# Altium schematic symbol library Resistor_0603_5%.SchLib: 132 symbols (part 1 of 2)
Pins are listed as number, name and electrical type; pins without a type are passive.

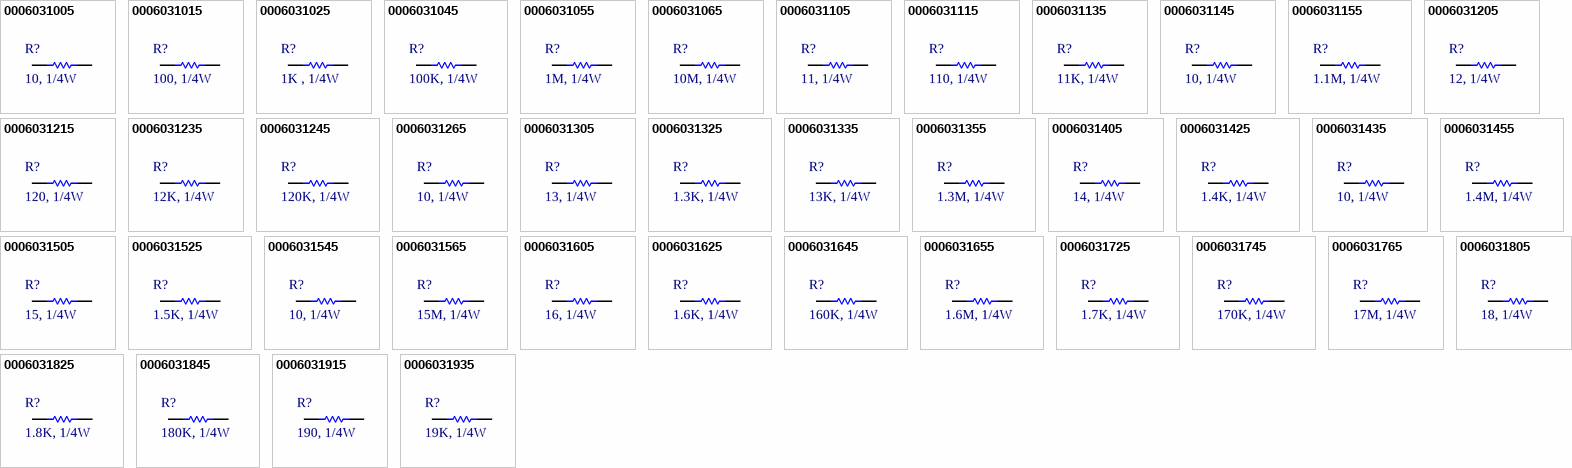
[diagram p0: symbols 0006031005 to 0006031935]

## 0006031005
designator R?, comment 10, 1/4W
RES, 10 Ohm, size 0603, 5%; Manufacture  Name: Panasonic; Manufacture  SN: ERJ-UP3J100V; Resistance tolerance: +/-5%; Resistance: 10; Supply 1 Name: Mouser; Supply 1 SN: 667-ERJ-UP3J100V; Supply 2 Name: Digi-Key; Supply 2 SN: 10-ERJ-UP3J100VTR-ND - Tape & Reel (TR); Size: 0603; Mounting Technology: SMT; Rated Power: 1/4 W; Datasheet: https://www.mouser.vn/datasheet/2/315/Panasonic_Resistors_Thick_Film_Anti_Sulf_Anti_Surg-1825099.pdf; ComponentLink1Description: Datasheet link; ComponentLink1URL: *; Supply 1 URL: https://www.mouser.vn/ProductDetail/Panasonic/ERJ-UP3J100V?qs=GedFDFLaBXHtQF28GWvg8g%3D%3D; Supply 2 URL: https://www.digikey.com/en/products/detail/panasonic-electronic-components/ERJ-UP3J100V/12092287; Supply 3 Name: *; Supply 3 SN: *; Supply 3 URL: https://www.thegioiic.com/dien-tro-10-ohm-1-4w-5-4-vong-mau
pins: 1, 2

## 0006031015
designator R?, comment 100, 1/4W
RES, 100 Ohm, size 0603, 5%; Manufacture  Name: Panasonic; Manufacture  SN: ERJ-PA3J101V; Resistance tolerance: +/-5%; Resistance: 100; Supply 1 Name: Mouser; Supply 1 SN: 667-ERJ-PA3J101V; Supply 2 Name: Digi-Key; Supply 2 SN: P100BZTR-ND - Tape & Reel (TR; Size: 0603; Mounting Technology: SMT; Rated Power: 1/4 W; Datasheet: https://www.mouser.vn/datasheet/2/315/AOA0000C331-1141874.pdf; ComponentLink1Description: Datasheet link; ComponentLink1URL: *; Supply 1 URL: https://www.mouser.vn/ProductDetail/Panasonic/ERJ-PA3J101V?qs=sGAEpiMZZMtlubZbdhIBIL24R7XL4VFWZlTxnuJKkJY%3D; Supply 2 URL: https://www.digikey.com/en/products/detail/panasonic-electronic-components/ERJ-PA3J101V/5035969?s=N4IgTCBcDaIGxwOwFoCiAlAUsgCgQQGZMBGABmIDUQBdAXyA; Supply 3 Name: *; Supply 3 SN: *; Supply 3 URL: https://www.thegioiic.com/dien-tro-100-ohm-1-4w-5-4-vong-mau
pins: 1, 2

## 0006031025
designator R?, comment 1K , 1/4W
RES, 1K Ohm, size 0603, 5%; Manufacture  Name: Panasonic; Manufacture  SN: ERJ-UP3J102V; Resistance tolerance: +/-5%; Supply 1 Name: Mouser; Supply 1 SN: 667-ERJ-UP3J102V; Supply 2 Name: Digi-Key; Size: 0603; Mounting Technology: SMT; Rated Power: 1/4 W; Datasheet: https://www.mouser.vn/datasheet/2/315/Panasonic_Resistors_Thick_Film_Anti_Sulf_Anti_Surg-1825099.pdf; Resistance: 1K; ComponentLink1Description: Datasheet link; ComponentLink1URL: *; Supply 1 URL: https://www.mouser.vn/ProductDetail/Panasonic/ERJ-UP3J102V?qs=GedFDFLaBXG0ASpYP%252B3phQ%3D%3D; Supply 2 SN: 667-ERJ-UP3J102V; Supply 2 URL: https://www.mouser.vn/ProductDetail/Panasonic/ERJ-UP3J102V?qs=GedFDFLaBXG0ASpYP%252B3phQ%3D%3D; Supply 3 Name: *; Supply 3 SN: *; Supply 3 URL: https://www.thegioiic.com/dien-tro-1-kohm-0603-5
pins: 1, 2

## 0006031045
designator R?, comment 100K, 1/4W
RES, 100K Ohm, size 0603, 5%; Manufacture  Name: Panasonic; Manufacture  SN: ERJ-UP3J104V; Resistance tolerance: +/-5%; Supply 1 Name: Mouser; Supply 1 SN: 667-ERJ-UP3J104V; Supply 2 Name: Digi-Key; Supply 2 SN: 10-ERJ-UP3J104VTR-ND - Tape & Reel (TR); Size: 0603; Mounting Technology: SMT; Rated Power: 1/4 W; Datasheet: https://www.mouser.vn/datasheet/2/315/Panasonic_Resistors_Thick_Film_Anti_Sulf_Anti_Surg-1825099.pdf; Resistance: 100K; ComponentLink1Description: Datasheet link; ComponentLink1URL: *; Supply 1 URL: https://www.mouser.vn/ProductDetail/Panasonic/ERJ-UP3J104V?qs=GedFDFLaBXGDblK28z0pnQ%3D%3D; Supply 2 URL: https://www.digikey.com/en/products/detail/panasonic-electronic-components/ERJ-UP3J104V/12092096?s=N4IgTCBcDaIGxwOwFoCiAlAUsgqgBQGZMBGABgBYA1EAXQF8g; Supply 3 Name: *; Supply 3 SN: *; Supply 3 URL: https://www.thegioiic.com/dien-tro-100-kohm-0603-5
pins: 1, 2

## 0006031055
designator R?, comment 1M, 1/4W
RES, 1M Ohm, size 0603, 5%; Manufacture  Name: Panasonic; Manufacture  SN: ERJ-UP3J105V; Resistance tolerance: +/-5%; Supply 1 Name: Mouser; Supply 1 SN: 667-ERJ-UP3J105V; Supply 2 Name: Digi-Key; Supply 2 SN: 10-ERJ-UP3J105VTR-ND - Tape & Reel (TR); Size: 0603; Mounting Technology: SMT; Rated Power: 1/4 W; Datasheet: https://www.mouser.vn/datasheet/2/315/Panasonic_Resistors_Thick_Film_Anti_Sulf_Anti_Surg-1825099.pdf; Resistance: 1M; ComponentLink1Description: Datasheet link; ComponentLink1URL: *; Supply 1 URL: https://www.mouser.vn/ProductDetail/Panasonic/ERJ-UP3J105V?qs=GedFDFLaBXGINFBXL6YStg%3D%3D; Supply 2 URL: https://www.digikey.com/en/products/detail/panasonic-electronic-components/ERJ-UP3J105V/12092177?s=N4IgTCBcDaIGxwOwFoCiAlAUsgqgBQGZMBGABgFYA1EAXQF8g; Supply 3 Name: *; Supply 3 SN: *; Supply 3 URL: https://www.thegioiic.com/dien-tro-1-mohm-0603-5
pins: 1, 2

## 0006031065
designator R?, comment 10M, 1/4W
RES, 10M Ohm, size 0603, 5%; Manufacture  Name: Panasonic; Manufacture  SN: ERJ-UP3J100V; Resistance tolerance: +/-5%; Resistance: 10; Supply 1 Name: Mouser; Supply 1 SN: 667-ERJ-UP3J100V; Supply 2 Name: Digi-Key; Supply 2 SN: 10-ERJ-UP3J100VTR-ND - Tape & Reel (TR); Size: 0603; Mounting Technology: SMT; Rated Power: 1/4 W; Datasheet: https://www.mouser.vn/datasheet/2/315/Panasonic_Resistors_Thick_Film_Anti_Sulf_Anti_Surg-1825099.pdf; ComponentLink1Description: Datasheet link; ComponentLink1URL: *; Supply 1 URL: https://www.mouser.vn/ProductDetail/Panasonic/ERJ-UP3J100V?qs=GedFDFLaBXHtQF28GWvg8g%3D%3D; Supply 2 URL: https://www.digikey.com/en/products/detail/panasonic-electronic-components/ERJ-UP3J100V/12092287; Supply 3 Name: *; Supply 3 SN: *; Supply 3 URL: https://www.thegioiic.com/dien-tro-10-ohm-1-4w-5-4-vong-mau
pins: 1, 2

## 0006031105
designator R?, comment 11, 1/4W
RES, 11 Ohm, size 0603, 5%; Manufacture  Name: Panasonic; Manufacture  SN: ERJ-PA3J110V; Resistance tolerance: +/-5%; Resistance: 11; Supply 1 Name: Mouser; Supply 1 SN: 667-ERJ-PA3J110V; Supply 2 Name: Digi-Key; Supply 2 SN: P11.00BZTR-ND - Tape & Reel (TR); Size: 0603; Mounting Technology: SMT; Rated Power: 1/4 W; Datasheet: https://www.mouser.vn/datasheet/2/315/AOA0000C331-1141874.pdf; ComponentLink1Description: Datasheet link; ComponentLink1URL: *; Supply 1 URL: https://www.mouser.vn/ProductDetail/Panasonic/ERJ-PA3J110V?qs=BzJM0faLVqUVJCFpF2esuw%3D%3D; Supply 2 URL: https://www.digikey.com/en/products/detail/panasonic-electronic-components/ERJ-PA3J110V/5035974?s=N4IgTCBcDaIKICUBSBaACgQQMxIIy4AYA1EAXQF8g; Supply 3 Name: *; Supply 3 SN: *; Supply 3 URL: *
pins: 1, 2

## 0006031115
designator R?, comment 110, 1/4W
RES, 110 Ohm, size 0603, 5%; Manufacture  Name: Panasonic; Manufacture  SN: ERJ-PA3J111V; Resistance tolerance: +/-5%; Resistance: 110; Supply 1 Name: Mouser; Supply 1 SN: 667-ERJ-PA3J111V; Supply 2 Name: Digi-Key; Supply 2 SN: P110BZTR-ND - Tape & Reel (TR); Size: 0603; Mounting Technology: SMT; Rated Power: 1/4 W; Datasheet: https://www.mouser.vn/datasheet/2/315/AOA0000C331-1141874.pdf; ComponentLink1Description: Datasheet link; ComponentLink1URL: *; Supply 1 URL: https://www.mouser.vn/ProductDetail/Panasonic/ERJ-PA3J111V?qs=BzJM0faLVqVWsrK26X2SBg%3D%3D; Supply 2 URL: https://www.digikey.com/en/products/detail/panasonic-electronic-components/ERJ-PA3J110V/5035974?s=N4IgTCBcDaIKICUBSBaACgQQMxIIy4AYA1EAXQF8g; Supply 3 Name: *; Supply 3 SN: *; Supply 3 URL: *
pins: 1, 2

## 0006031135
designator R?, comment 11K, 1/4W
RES, 11K Ohm, size 0603, 5%; Manufacture  Name: Panasonic; Resistance tolerance: +/-5%; Supply 1 Name: Mouser; Supply 1 SN: ERJ-PA3J113V; Supply 2 Name: Digi-Key; Supply 2 SN: P11KBZTR-ND - Tape & Reel (TR); Size: 0603; Mounting Technology: SMT; Rated Power: 1/4 W; Datasheet: https://www.mouser.vn/datasheet/2/315/AOA0000C331-1141874.pdf; Resistance: 11K; ComponentLink1Description: Datasheet link; ComponentLink1URL: *; Supply 1 URL: https://www.mouser.vn/ProductDetail/Panasonic/ERJ-PA3J113V?qs=BzJM0faLVqVM8QjVQI3mRg%3D%3D; Supply 2 URL: https://www.digikey.com/en/products/detail/panasonic-electronic-components/ERJ-PA3J113V/5035977?s=N4IgTCBcDaIGxwOwFoCiAlAUsgCgQQGZMBGYggNRAF0BfIA; Supply 3 Name: *; Supply 3 SN: *; Supply 3 URL: *; Manufacture  SN: ERJ-PA3J113V
pins: 1, 2

## 0006031145
designator R?, comment 10, 1/4W
RES, 110K Ohm, size 0603, 5%; Manufacture  Name: Panasonic; Manufacture  SN: ERJ-PA3J114V; Resistance tolerance: +/-5%; Supply 1 Name: Mouser; Supply 1 SN: 667-ERJ-PA3J114V; Supply 2 Name: Digi-Key; Supply 2 SN: P110KBZTR-ND - Tape & Reel (TR); Size: 0603; Mounting Technology: SMT; Rated Power: 1/4 W; Datasheet: https://www.mouser.vn/datasheet/2/315/AOA0000C331-1141874.pdf; Resistance: 110K; ComponentLink1Description: Datasheet link; ComponentLink1URL: *; Supply 1 URL: https://www.mouser.vn/ProductDetail/Panasonic/ERJ-PA3J114V?qs=BzJM0faLVqW9SUUBohRIoQ%3D%3D; Supply 2 URL: https://www.digikey.com/en/products/detail/panasonic-electronic-components/ERJ-PA3J114V/5035978?s=N4IgTCBcDaIGxwOwFoCiAlAUsgCgQQGZMBGYgFgDUQBdAXyA; Supply 3 Name: *; Supply 3 SN: *; Supply 3 URL: *
pins: 1, 2

## 0006031155
designator R?, comment 1.1M, 1/4W
RES, 1.1M Ohm, size 0603, 5%; Manufacture  Name: Panasonic; Manufacture  SN: ERJ-PA3J115V; Resistance tolerance: +/-5%; Supply 1 Name: Mouser; Supply 1 SN: 667-ERJ-PA3J115V; Supply 2 Name: Digi-Key; Supply 2 SN: P124098TR-ND - Tape & Reel (TR); Size: 0603; Mounting Technology: SMT; Rated Power: 1/4 W; Datasheet: https://www.mouser.vn/datasheet/2/315/AOA0000C331-1141874.pdf; Resistance: 1.1M; ComponentLink1Description: Datasheet link; ComponentLink1URL: *; Supply 1 URL: https://www.mouser.vn/ProductDetail/Panasonic/ERJ-PA3J115V?qs=qSfuJ%252Bfl%2Fd52nzS52dr8qA%3D%3D; Supply 2 URL: https://www.digikey.com/en/products/detail/panasonic-electronic-components/ERJ-PA3J115V/9694904?s=N4IgTCBcDaIGxwOwFoCiAlAUsgCgQQGZMBGYgVgDUQBdAXyA; Supply 3 Name: *; Supply 3 SN: *; Supply 3 URL: *
pins: 1, 2

## 0006031205
designator R?, comment 12, 1/4W
RES, 12 Ohm, size 0603, 5%; Manufacture  Name: Panasonic; Manufacture  SN: ERJ-PA3J120V; Resistance tolerance: +/-5%; Resistance: 10; Supply 1 Name: Mouser; Supply 2 Name: Digi-Key; Supply 2 SN: P12.00BZTR-ND - Tape & Reel (TR); Size: 0603; Mounting Technology: SMT; Rated Power: 1/4 W; Datasheet: https://www.mouser.vn/datasheet/2/315/AOA0000C331-1141874.pdf; ComponentLink1Description: Datasheet link; ComponentLink1URL: *; Supply 1 SN: https://www.mouser.vn/ProductDetail/Panasonic/ERJ-PA3J120V?qs=BzJM0faLVqW1x3yhFHUqTw%3D%3D; Supply 1 URL: https://www.mouser.vn/ProductDetail/Panasonic/ERJ-PA3J120V?qs=BzJM0faLVqW1x3yhFHUqTw%3D%3D; Supply 2 URL: https://www.digikey.com/en/products/detail/panasonic-electronic-components/ERJ-PA3J120V/5035979?s=N4IgTCBcDaIGxwOwFoCiAlAUsgCgQQGZMBGMABgDUQBdAXyA; Supply 3 Name: *; Supply 3 SN: *; Supply 3 URL: https://www.thegioiic.com/dien-tro-12-ohm-0603-5-
pins: 1, 2

## 0006031215
designator R?, comment 120, 1/4W
RES, 120 Ohm, size 0603, 5%; Manufacture  Name: Panasonic; Manufacture  SN: ERJ-PA3J121V; Resistance tolerance: +/-5%; Resistance: 120; Supply 1 Name: Mouser; Supply 1 SN: 667-ERJ-PA3J121V; Supply 2 Name: Digi-Key; Supply 2 SN: P120BZTR-ND - Tape & Reel (TR); Size: 0603; Mounting Technology: SMT; Rated Power: 1/4 W; Datasheet: https://www.mouser.vn/datasheet/2/315/AOA0000C331-1141874.pdf; ComponentLink1Description: Datasheet link; ComponentLink1URL: *; Supply 1 URL: https://www.mouser.vn/ProductDetail/Panasonic/ERJ-PA3J121V?qs=BzJM0faLVqUskHAfNBlRjA%3D%3D; Supply 2 URL: https://www.digikey.com/en/products/detail/panasonic-electronic-components/ERJ-PA3J121V/5035980?s=N4IgTCBcDaIGxwOwFoCiAlAUsgCgQQGZMBGMYgNRAF0BfIA; Supply 3 Name: *; Supply 3 SN: *; Supply 3 URL: https://www.thegioiic.com/dien-tro-120-ohm-0603-5
pins: 1, 2

## 0006031235
designator R?, comment 12K, 1/4W
RES, 12K Ohm, size 0603, 5%; Manufacture  Name: Panasonic; Resistance tolerance: +/-5%; Supply 1 Name: Mouser; Supply 1 SN: 667-ERJ-PA3J123V; Supply 2 Name: Digi-Key; Supply 2 SN: P12KBZTR-ND - Tape & Reel (TR); Size: 0603; Mounting Technology: SMT; Rated Power: 1/4 W; Datasheet: https://www.mouser.vn/datasheet/2/315/AOA0000C331-1141874.pdf; Resistance: 12K; ComponentLink1Description: Datasheet link; ComponentLink1URL: *; Supply 1 URL: https://www.mouser.vn/ProductDetail/Panasonic/ERJ-PA3J123V?qs=BzJM0faLVqUmhFLBcKz%2F9g%3D%3D; Supply 2 URL: https://www.digikey.com/en/products/detail/panasonic-electronic-components/ERJ-PA3J123V/5035982?s=N4IgTCBcDaIGxwOwFoCiAlAUsgCgQQGZMBGMAgNRAF0BfIA; Supply 3 Name: *; Supply 3 SN: *; Supply 3 URL: https://www.thegioiic.com/dien-tro-12-kohm-0603-5
pins: 1, 2

## 0006031245
designator R?, comment 120K, 1/4W
RES, 120K Ohm, size 0603, 5%; Manufacture  Name: Panasonic; Manufacture  SN: ERJ-PA3J124V; Resistance tolerance: +/-5%; Supply 1 Name: Mouser; Supply 1 SN: 667-ERJ-PA3J124V; Supply 2 Name: Digi-Key; Supply 2 SN: P120KBZTR-ND - Tape & Reel (TR); Size: 0603; Mounting Technology: SMT; Rated Power: 1/4 W; Datasheet: https://www.mouser.vn/datasheet/2/315/AOA0000C331-1141874.pdf; Resistance: 120K; ComponentLink1Description: Datasheet link; ComponentLink1URL: *; Supply 1 URL: https://www.mouser.vn/ProductDetail/Panasonic/ERJ-PA3J124V?qs=BzJM0faLVqW0tp%252B4qebUxw%3D%3D; Supply 2 URL: https://www.digikey.com/en/products/detail/panasonic-electronic-components/ERJ-PA3J124V/5035983?s=N4IgTCBcDaIGxwOwFoCiAlAUsgCgQQGZMBGMAFgDUQBdAXyA; Supply 3 Name: *; Supply 3 SN: *; Supply 3 URL: https://www.thegioiic.com/dien-tro-120-kohm-0603-5
pins: 1, 2

## 0006031265
designator R?, comment 10, 1/4W
RES, 12M Ohm, size 0603, 5%; Resistance tolerance: +/-5%; Size: 0603; Mounting Technology: SMT; Rated Power: 1/4 W; Datasheet: https://www.mouser.vn/datasheet/2/315/Panasonic_Resistors_Thick_Film_Anti_Sulf_Anti_Surg-1825099.pdf; Resistance: 12M; ComponentLink1Description: Datasheet link; ComponentLink1URL: *; Supply 1 Name: *; Supply 1 SN: *; Supply 1 URL: *; Supply 2 Name: *; Supply 2 SN: *; Supply 2 URL: *; Supply 3 Name: *; Supply 3 SN: *; Supply 3 URL: *; Manufacture  Name: *; Manufacture  SN: *
pins: 1, 2

## 0006031305
designator R?, comment 13, 1/4W
RES, 13 Ohm, size 0603, 5%; Manufacture  Name: Panasonic; Manufacture  SN: ERJ-PA3J130V; Resistance tolerance: +/-5%; Resistance: 13; Supply 1 Name: Mouser; Supply 1 SN: 667-ERJ-PA3J130V; Supply 2 Name: Digi-Key; Supply 2 SN: P13.00BZTR-ND - Tape & Reel (TR); Size: 0603; Mounting Technology: SMT; Rated Power: 1/4 W; Datasheet: https://www.mouser.vn/datasheet/2/315/AOA0000C331-1141874.pdf; ComponentLink1Description: Datasheet link; ComponentLink1URL: *; Supply 1 URL: https://www.digikey.com/en/products/detail/panasonic-electronic-components/ERJ-PA3J130V/5035984?s=N4IgTCBcDaIGxwOwFoCiAlAUsgCgQQGZMBGAgBgDUQBdAXyA; Supply 2 URL: https://www.digikey.com/en/products/detail/panasonic-electronic-components/ERJ-PA3J130V/5035984?s=N4IgTCBcDaIGxwOwFoCiAlAUsgCgQQGZMBGAgBgDUQBdAXyA; Supply 3 Name: *; Supply 3 SN: *; Supply 3 URL: *
pins: 1, 2

## 0006031325
designator R?, comment 1.3K, 1/4W
RES, 1.3K Ohm, size 0603, 5%; Manufacture  Name: Panasonic; Manufacture  SN: ERJ-PA3J132V; Resistance tolerance: +/-5%; Supply 1 Name: Mouser; Supply 1 SN: 667-ERJ-PA3J132V; Supply 2 Name: Digi-Key; Supply 2 SN: P1.3KBZTR-ND - Tape & Reel (TR); Size: 0603; Mounting Technology: SMT; Rated Power: 1/4 W; Datasheet: https://www.mouser.vn/datasheet/2/315/AOA0000C331-1141874.pdf; Resistance: 1.3K; ComponentLink1Description: Datasheet link; ComponentLink1URL: *; Supply 1 URL: https://www.mouser.vn/ProductDetail/Panasonic/ERJ-PA3J132V?qs=BzJM0faLVqVH6IcrChaVZw%3D%3D; Supply 2 URL: https://www.digikey.com/en/products/detail/panasonic-electronic-components/ERJ-PA3J132V/5035986?s=N4IgTCBcDaIGxwOwFoCiAlAUsgCgQQGZMBGAsANRAF0BfIA; Supply 3 Name: *; Supply 3 SN: *
pins: 1, 2

## 0006031335
designator R?, comment 13K, 1/4W
RES, 13K Ohm, size 0603, 5%; Manufacture  Name: Panasonic; Manufacture  SN: ERJ-PA3J133V; Resistance tolerance: +/-5%; Supply 1 Name: Mouser; Supply 1 SN: 667-ERJ-PA3J133V; Supply 2 Name: Digi-Key; Supply 2 SN: P13KBZTR-ND - Tape & Reel (TR); Size: 0603; Mounting Technology: SMT; Rated Power: 1/4 W; Datasheet: https://www.mouser.vn/datasheet/2/315/AOA0000C331-1141874.pdf; Resistance: 13K; ComponentLink1Description: Datasheet link; ComponentLink1URL: *; Supply 1 URL: https://www.mouser.vn/ProductDetail/Panasonic/ERJ-PA3J133V?qs=BzJM0faLVqWIEe8wMw2nxQ%3D%3D; Supply 2 URL: https://www.digikey.com/en/products/detail/panasonic-electronic-components/ERJ-PA3J133V/5035987?s=N4IgTCBcDaIGxwOwFoCiAlAUsgCgQQGZMBGAggNRAF0BfIA; Supply 3 Name: *; Supply 3 SN: *; Supply 3 URL: https://www.thegioiic.com/dien-tro-13-kohm-0603-5
pins: 1, 2

## 0006031355
designator R?, comment 1.3M, 1/4W
RES, 1.3M Ohm, size 0603, 5%; Manufacture  Name: Panasonic; Manufacture  SN: ERJ-PA3J135V; Resistance tolerance: +/-5%; Supply 1 Name: Mouser; Supply 1 SN: 667-ERJ-PA3J135V; Supply 2 Name: Digi-Key; Supply 2 SN: P124100TR-ND - Tape & Reel (TR); Size: 0603; Mounting Technology: SMT; Rated Power: 1/4 W; Datasheet: https://www.mouser.vn/datasheet/2/315/Panasonic_Resistors_Thick_Film_Anti_Sulf_Anti_Surg-1825099.pdf; Resistance: 1.3M; ComponentLink1Description: Datasheet link; ComponentLink1URL: *; Supply 1 URL: https://www.mouser.vn/ProductDetail/Panasonic/ERJ-PA3J135V?qs=qSfuJ%252Bfl%2Fd43JlVrOpg6Sg%3D%3D; Supply 2 URL: https://www.digikey.com/en/products/detail/panasonic-electronic-components/ERJ-PA3J135V/9694906?s=N4IgTCBcDaIGxwOwFoCiAlAUsgCgQQGZMBGAgVgDUQBdAXyA; Supply 3 Name: *; Supply 3 SN: *; Supply 3 URL: *
pins: 1, 2

## 0006031405
designator R?, comment 14, 1/4W
RES, 14 Ohm, size 0603, 5%; Resistance tolerance: +/-5%; Size: 0603; Mounting Technology: SMT; Rated Power: 1/4 W; Datasheet: *; Resistance: *; ComponentLink1Description: Datasheet link; ComponentLink1URL: *; Supply 1 Name: *; Supply 1 SN: *; Supply 1 URL: *; Supply 2 Name: *; Supply 2 SN: *; Supply 2 URL: *; Supply 3 Name: *; Supply 3 SN: *; Supply 3 URL: *; Manufacture  Name: *; Manufacture  SN: *
pins: 1, 2

## 0006031425
designator R?, comment 1.4K, 1/4W
RES, 1.4K Ohm, size 0603, 5%; Resistance tolerance: +/-5%; Size: 0603; Mounting Technology: SMT; Rated Power: 1/4 W; Datasheet: *; Resistance: 1.4k; ComponentLink1Description: Datasheet link; ComponentLink1URL: *; Supply 1 Name: *; Supply 1 SN: *; Supply 1 URL: *; Supply 2 Name: *; Supply 2 SN: *; Supply 2 URL: *; Supply 3 Name: *; Supply 3 SN: *; Supply 3 URL: *; Manufacture  Name: *; Manufacture  SN: *
pins: 1, 2

## 0006031435
designator R?, comment 10, 1/4W
RES, 14K Ohm, size 0603, 5%; Resistance tolerance: +/-5%; Size: 0603; Mounting Technology: SMT; Rated Power: 1/4 W; Datasheet: *; Resistance: 14K; ComponentLink1Description: Datasheet link; ComponentLink1URL: *; Supply 1 Name: *; Supply 1 SN: *; Supply 1 URL: *; Supply 2 Name: *; Supply 2 SN: *; Supply 2 URL: *; Supply 3 Name: *; Supply 3 SN: *; Supply 3 URL: *; Manufacture  Name: *; Manufacture  SN: *
pins: 1, 2

## 0006031455
designator R?, comment 1.4M, 1/4W
RES, 1.4M Ohm, size 0603, 5%; Resistance tolerance: +/-5%; Size: 0603; Mounting Technology: SMT; Rated Power: 1/4 W; Datasheet: *; Resistance: 1.4M; ComponentLink1Description: Datasheet link; ComponentLink1URL: *; Supply 1 Name: *; Supply 1 SN: *; Supply 1 URL: *; Supply 2 Name: *; Supply 2 SN: *; Supply 2 URL: *; Supply 3 Name: *; Supply 3 SN: *; Supply 3 URL: *; Manufacture  Name: *; Manufacture  SN: *
pins: 1, 2

## 0006031505
designator R?, comment 15, 1/4W
RES, 15 Ohm, size 0603, 5%; Manufacture  Name: Panasonic; Manufacture  SN: ERJ-PA3J150V; Resistance tolerance: +/-5%; Resistance: 15; Supply 1 Name: Mouser; Supply 1 SN: 667-ERJ-PA3J150V; Supply 2 Name: Digi-Key; Supply 2 SN: P15.00BZTR-ND - Tape & Reel (TR); Size: 0603; Mounting Technology: SMT; Rated Power: 1/4 W; Datasheet: https://www.mouser.vn/datasheet/2/315/AOA0000C331-1141874.pdf; ComponentLink1Description: Datasheet link; ComponentLink1URL: *; Supply 1 URL: https://www.mouser.vn/ProductDetail/Panasonic/ERJ-PA3J150V?qs=BzJM0faLVqWQrQpdpn4WSg%3D%3D; Supply 2 URL: https://www.digikey.com/en/products/detail/panasonic-electronic-components/ERJ-PA3J150V/5035989?s=N4IgTCBcDaIGxwOwFoCiAlAUsgCgQQGZMBGAVgAYA1EAXQF8g; Supply 3 Name: *; Supply 3 SN: *; Supply 3 URL: https://www.thegioiic.com/dien-tro-15-ohm-0603-5-
pins: 1, 2

## 0006031525
designator R?, comment 1.5K, 1/4W
RES, 1.5K Ohm, size 0603, 5%; Manufacture  Name: Panasonic; Resistance tolerance: +/-5%; Supply 1 Name: Mouser; Supply 1 SN: 667-ERJ-PA3J152V; Supply 2 Name: Digi-Key; Supply 2 SN: P1.5KBZTR-ND - Tape & Reel (TR); Size: 0603; Mounting Technology: SMT; Rated Power: 1/4 W; Datasheet: https://www.mouser.vn/datasheet/2/315/Panasonic_Resistors_Thick_Film_Anti_Sulf_Anti_Surg-1825099.pdf; Resistance: 1.5K; ComponentLink1Description: Datasheet link; ComponentLink1URL: *; Supply 1 URL: https://www.mouser.vn/ProductDetail/Panasonic/ERJ-PA3J152V?qs=BzJM0faLVqVoRX2ZXjooUw%3D%3D; Supply 2 URL: https://www.digikey.com/en/products/detail/panasonic-electronic-components/ERJ-PA3J152V/5035991?s=N4IgTCBcDaIGxwOwFoCiAlAUsgCgQQGZMBGAVjADUQBdAXyA; Supply 3 Name: *; Supply 3 SN: *; Supply 3 URL: https://www.thegioiic.com/dien-tro-1-5-kohm-0603-5; Manufacture  SN: https://www.mouser.vn/ProductDetail/Panasonic/ERJ-PA3J152V?qs=BzJM0faLVqVoRX2ZXjooUw%3D%3D
pins: 1, 2

## 0006031545
designator R?, comment 10, 1/4W
RES, 150K Ohm, size 0603, 5%; Manufacture  Name: Panasonic; Manufacture  SN: ERJ-PA3J154V; Resistance tolerance: +/-5%; Supply 1 Name: Mouser; Supply 1 SN: 667-ERJ-PA3J154V; Supply 2 Name: Digi-Key; Supply 2 SN: P150KBZTR-ND - Tape & Reel (TR); Size: 0603; Mounting Technology: SMT; Rated Power: 1/4 W; Datasheet: https://www.mouser.vn/datasheet/2/315/AOA0000C331-1141874.pdf; Resistance: 150K; ComponentLink1Description: Datasheet link; ComponentLink1URL: *; Supply 1 URL: https://www.mouser.vn/ProductDetail/Panasonic/ERJ-PA3J154V?qs=BzJM0faLVqUQ0OxnTOD5Tw%3D%3D; Supply 2 URL: https://www.digikey.com/en/products/detail/panasonic-electronic-components/ERJ-PA3J154V/5035993?s=N4IgTCBcDaIKICUBSBaACgQQMxIIwFYAWANRAF0BfIA; Supply 3 Name: *; Supply 3 SN: *; Supply 3 URL: https://www.thegioiic.com/dien-tro-150-kohm-0603-5
pins: 1, 2

## 0006031565
designator R?, comment 15M, 1/4W
RES, 15M Ohm, size 0603, 5%; Resistance tolerance: +/-5%; Size: 0603; Mounting Technology: SMT; Rated Power: 1/4 W; Datasheet: *; Resistance: 15M; ComponentLink1Description: Datasheet link; ComponentLink1URL: *; Supply 1 Name: *; Supply 1 SN: *; Supply 1 URL: *; Supply 2 Name: *; Supply 2 SN: *; Supply 2 URL: *; Supply 3 Name: *; Supply 3 SN: *; Supply 3 URL: *; Manufacture  Name: *; Manufacture  SN: *
pins: 1, 2

## 0006031605
designator R?, comment 16, 1/4W
RES, 16 Ohm, size 0603, 5%; Manufacture  Name: Panasonic; Manufacture  SN: ERJ-PA3J160V; Resistance tolerance: +/-5%; Resistance: 16; Supply 1 Name: Mouser; Supply 1 SN: 667-ERJ-PA3J160V; Supply 2 Name: Digi-Key; Supply 2 SN: P16.00BZTR-ND - Tape & Reel (TR); Size: 0603; Mounting Technology: SMT; Rated Power: 1/4 W; Datasheet: https://www.mouser.vn/datasheet/2/315/AOA0000C331-1141874.pdf; ComponentLink1Description: Datasheet link; ComponentLink1URL: *; Supply 1 URL: https://www.mouser.vn/ProductDetail/Panasonic/ERJ-PA3J160V?qs=BzJM0faLVqV33b%2FdElWIBA%3D%3D; Supply 2 URL: https://www.digikey.com/en/products/detail/panasonic-electronic-components/ERJ-PA3J160V/5035994?s=N4IgTCBcDaIGxwOwFoCiAlAUsgCgQQGZMBGOABgDUQBdAXyA; Supply 3 Name: *; Supply 3 SN: *; Supply 3 URL: *
pins: 1, 2

## 0006031625
designator R?, comment 1.6K, 1/4W
RES, 1.6K Ohm, size 0603, 5%; Manufacture  Name: Panasonic; Manufacture  SN: ERJ-PA3J162V; Resistance tolerance: +/-5%; Supply 1 Name: Mouser; Supply 1 SN: 667-ERJ-PA3J162V; Supply 2 Name: Digi-Key; Supply 2 SN: P1.6KBZTR-ND - Tape & Reel (TR); Size: 0603; Mounting Technology: SMT; Rated Power: 1/4 W; Datasheet: https://www.mouser.vn/datasheet/2/315/AOA0000C331-1141874.pdf; Resistance: 1.6K; ComponentLink1Description: Datasheet link; ComponentLink1URL: *; Supply 1 URL: https://www.mouser.vn/ProductDetail/Panasonic/ERJ-PA3J162V?qs=BzJM0faLVqWmQ2dOma89Ug%3D%3D; Supply 2 URL: https://www.digikey.com/en/products/detail/panasonic-electronic-components/ERJ-PA3J162V/5035996?s=N4IgTCBcDaIGxwOwFoCiAlAUsgCgQQGZMBGOMANRAF0BfIA; Supply 3 Name: *; Supply 3 SN: *; Supply 3 URL: *
pins: 1, 2

## 0006031645
designator R?, comment 160K, 1/4W
RES, 160K Ohm, size 0603, 5%; Manufacture  Name: Panasonic; Manufacture  SN: ERJ-PA3J164V; Resistance tolerance: +/-5%; Supply 1 Name: Mouser; Supply 1 SN: 667-ERJ-PA3J164V; Supply 2 Name: Digi-Key; Supply 2 SN: P160KBZTR-ND - Tape & Reel (TR); Size: 0603; Mounting Technology: SMT; Rated Power: 1/4 W; Datasheet: https://www.mouser.vn/datasheet/2/315/Panasonic_Resistors_Thick_Film_Anti_Sulf_Anti_Surg-1825099.pdf; Resistance: 160K; ComponentLink1Description: Datasheet link; ComponentLink1URL: *; Supply 1 URL: https://www.mouser.vn/ProductDetail/Panasonic/ERJ-PA3J164V?qs=BzJM0faLVqVAGHfBHFIBng%3D%3D; Supply 2 URL: https://www.digikey.com/en/products/detail/panasonic-electronic-components/ERJ-PA3J164V/5035998?s=N4IgTCBcDaIGxwOwFoCiAlAUsgCgQQGZMBGOAFgDUQBdAXyA; Supply 3 Name: *; Supply 3 SN: *; Supply 3 URL: *
pins: 1, 2

## 0006031655
designator R?, comment 1.6M, 1/4W
RES, 1.6M Ohm, size 0603, 5%; Manufacture  Name: Panasonic; Manufacture  SN: ESR03EZPJ165; Resistance tolerance: +/-5%; Supply 1 Name: Mouser; Supply 1 SN: 755-ESR03EZPJ165; Supply 2 Name: Digi-Key; Supply 2 SN: RHM1.6MDTR-ND - Tape & Reel (TR); Size: 0603; Mounting Technology: SMT; Rated Power: 1/4 W; Datasheet: https://www.mouser.vn/datasheet/2/348/ROHM_S_A0011075102_1-2563252.pdf; Resistance: 1.6M; ComponentLink1Description: Datasheet link; ComponentLink1URL: *; Supply 1 URL: https://www.mouser.vn/ProductDetail/ROHM-Semiconductor/ESR03EZPJ165?qs=493kPxzlxfJE2ulu9ea6EQ%3D%3D; Supply 2 URL: https://www.digikey.com/en/products/detail/rohm-semiconductor/ESR03EZPJ165/4051202?s=N4IgTCBcDaIOwFYEFoCiBlASgBgMyoC0AFAKQEYA2BEAXQF8g; Supply 3 Name: *; Supply 3 SN: *; Supply 3 URL: https://www.thegioiic.com/dien-tro-10-ohm-1-4w-5-4-vong-mau
pins: 1, 2

## 0006031725
designator R?, comment 1.7K, 1/4W
RES, 1.7K Ohm, size 0603, 5%; Resistance tolerance: +/-5%; Size: 0603; Mounting Technology: SMT; Rated Power: 1/4 W; Datasheet: *; Resistance: 1.7K; ComponentLink1Description: Datasheet link; ComponentLink1URL: *; Supply 1 Name: *; Supply 1 SN: *; Supply 1 URL: *; Supply 2 Name: *; Supply 2 SN: *; Supply 2 URL: *; Supply 3 Name: *; Supply 3 SN: *; Supply 3 URL: *; Manufacture  Name: *; Manufacture  SN: *
pins: 1, 2

## 0006031745
designator R?, comment 170K, 1/4W
RES, 170K Ohm, size 0603, 5%; Resistance tolerance: +/-5%; Size: 0603; Mounting Technology: SMT; Rated Power: 1/4 W; Datasheet: *; Resistance: 170K; ComponentLink1Description: Datasheet link; ComponentLink1URL: *; Supply 1 Name: *; Supply 1 SN: *; Supply 1 URL: *; Supply 2 Name: *; Supply 2 SN: *; Supply 2 URL: *; Supply 3 Name: *; Supply 3 SN: *; Supply 3 URL: *; Manufacture  Name: *; Manufacture  SN: *
pins: 1, 2

## 0006031765
designator R?, comment 17M, 1/4W
RES, 17M Ohm, size 0603, 5%; Resistance tolerance: +/-5%; Size: 0603; Mounting Technology: SMT; Rated Power: 1/4 W; Datasheet: *; Resistance: 17M; ComponentLink1Description: Datasheet link; ComponentLink1URL: *; Supply 1 Name: *; Supply 1 SN: *; Supply 1 URL: *; Supply 2 Name: *; Supply 2 SN: *; Supply 2 URL: *; Supply 3 Name: *; Supply 3 SN: *; Supply 3 URL: *; Manufacture  Name: *; Manufacture  SN: *
pins: 1, 2

## 0006031805
designator R?, comment 18, 1/4W
RES, 18 Ohm, size 0603, 5%; Manufacture  Name: Panasonic; Manufacture  SN: ERJ-PA3J180V; Resistance tolerance: +/-5%; Resistance: 18; Supply 1 Name: Mouser; Supply 1 SN: 667-ERJ-PA3J180V; Supply 2 Name: Digi-Key; Supply 2 SN: P18.00BZTR-ND - Tape & Reel (TR); Size: 0603; Mounting Technology: SMT; Rated Power: 1/4 W; Datasheet: https://www.mouser.vn/datasheet/2/315/AOA0000C331-1141874.pdf; ComponentLink1Description: Datasheet link; ComponentLink1URL: *; Supply 1 URL: https://www.mouser.vn/ProductDetail/Panasonic/ERJ-PA3J180V?qs=BzJM0faLVqWoePtbyfIonA%3D%3D; Supply 2 URL: https://www.digikey.com/en/products/detail/panasonic-electronic-components/ERJ-PA3J180V/5035999?s=N4IgTCBcDaIGxwOwFoCiAlAUsgCgQQGZMBGADgAYA1EAXQF8g; Supply 3 Name: *; Supply 3 SN: *; Supply 3 URL: https://www.thegioiic.com/dien-tro-18-ohm-0603-5-
pins: 1, 2

## 0006031825
designator R?, comment 1.8K, 1/4W
RES, 1.8K Ohm, size 0603, 5%; Manufacture  Name: Panasonic; Manufacture  SN: ERJ-UP3J182V; Resistance tolerance: +/-5%; Supply 1 Name: Mouser; Supply 1 SN: 667-ERJ-UP3J182V; Supply 2 Name: Digi-Key; Supply 2 SN: 10-ERJ-UP3J182VTR-ND - Tape & Reel (TR); Size: 0603; Mounting Technology: SMT; Rated Power: 1/4 W; Datasheet: https://www.mouser.vn/datasheet/2/315/Panasonic_Resistors_Thick_Film_Anti_Sulf_Anti_Surg-1825099.pdf; Resistance: 1.8K; ComponentLink1Description: Datasheet link; ComponentLink1URL: *; Supply 1 URL: https://www.mouser.vn/ProductDetail/Panasonic/ERJ-UP3J182V?qs=GedFDFLaBXEdz0KjUYQ0%2FQ%3D%3D; Supply 2 URL: https://www.digikey.com/en/products/detail/panasonic-electronic-components/ERJ-UP3J182V/12092931?s=N4IgTCBcDaIGxwOwFoCiAlAUsgqgBQGZMBGADjADUQBdAXyA; Supply 3 Name: *; Supply 3 SN: *; Supply 3 URL: https://www.thegioiic.com/product/dien-tro-dan-smd?prid=291,6628,4682
pins: 1, 2

## 0006031845
designator R?, comment 180K, 1/4W
RES, 180K Ohm, size 0603, 5%; Manufacture  Name: Panasonic; Manufacture  SN: ERJ-PA3J184V; Resistance tolerance: +/-5%; Supply 1 Name: Mouser; Supply 1 SN: 667-ERJ-PA3J184V; Supply 2 Name: Digi-Key; Supply 2 SN: P180KBZTR-ND - Tape & Reel (TR); Size: 0603; Mounting Technology: SMT; Rated Power: 1/4 W; Datasheet: https://www.mouser.vn/datasheet/2/315/AOA0000C331-1141874.pdf; Resistance: 180K; ComponentLink1Description: Datasheet link; ComponentLink1URL: *; Supply 1 URL: https://www.mouser.vn/ProductDetail/Panasonic/ERJ-PA3J184V?qs=BzJM0faLVqV02%252BkMYM0K6A%3D%3D; Supply 2 URL: https://www.digikey.com/en/products/detail/panasonic-electronic-components/ERJ-PA3J184V/5036003?s=N4IgTCBcDaIGxwOwFoCiAlAUsgCgQQGZMBGADgBYA1EAXQF8g; Supply 3 Name: *; Supply 3 SN: *; Supply 3 URL: https://www.thegioiic.com/dien-tro-180-kohm-0603-5
pins: 1, 2

## 0006031915
designator R?, comment 190, 1/4W
RES, 190 Ohm, size 0603, 5%; Resistance tolerance: +/-5%; Resistance: 190; Size: 0603; Mounting Technology: SMT; Rated Power: 1/4 W; Datasheet: *; ComponentLink1Description: Datasheet link; ComponentLink1URL: *; Supply 1 Name: *; Supply 1 SN: *; Supply 1 URL: *; Supply 2 Name: *; Supply 2 SN: *; Supply 2 URL: *; Supply 3 Name: *; Supply 3 SN: *; Supply 3 URL: *; Manufacture  Name: *; Manufacture  SN: *
pins: 1, 2

## 0006031935
designator R?, comment 19K, 1/4W
RES, 19K Ohm, size 0603, 5%; Resistance tolerance: +/-5%; Size: 0603; Mounting Technology: SMT; Rated Power: 1/4 W; Datasheet: *; Resistance: 19K; ComponentLink1Description: Datasheet link; ComponentLink1URL: *; Supply 1 Name: *; Supply 1 SN: *; Supply 1 URL: *; Supply 2 Name: *; Supply 2 SN: *; Supply 2 URL: *; Supply 3 Name: *; Supply 3 SN: *; Supply 3 URL: *; Manufacture  Name: *; Manufacture  SN: *
pins: 1, 2

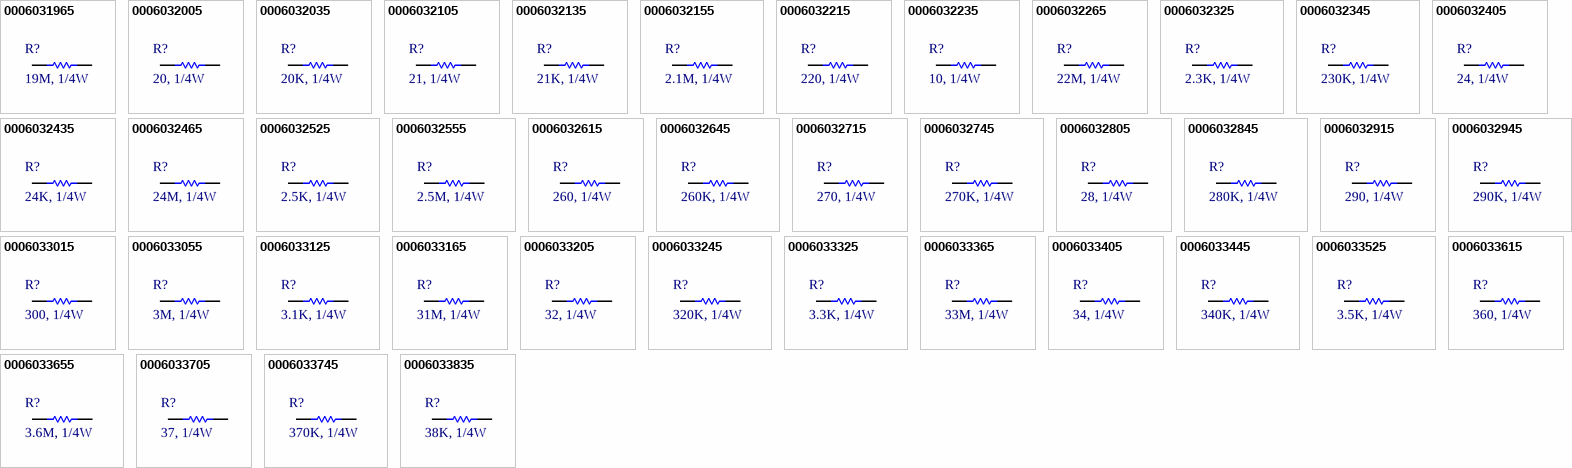
[diagram p1: symbols 0006031965 to 0006033835]

## 0006031965
designator R?, comment 19M, 1/4W
RES, 19M Ohm, size 0603, 5%; Resistance tolerance: +/-5%; Size: 0603; Mounting Technology: SMT; Rated Power: 1/4 W; Datasheet: *; Resistance: 19M; ComponentLink1Description: Datasheet link; ComponentLink1URL: *; Supply 1 Name: *; Supply 1 SN: *; Supply 1 URL: *; Supply 2 Name: *; Supply 2 SN: *; Supply 2 URL: *; Supply 3 Name: *; Supply 3 SN: *; Supply 3 URL: *; Manufacture  Name: *; Manufacture  SN: *
pins: 1, 2

## 0006032005
designator R?, comment 20, 1/4W
RES, 20 Ohm, size 0603, 5%; Manufacture  Name: Panasonic; Manufacture  SN: ERJ-UP3J200V; Resistance tolerance: +/-5%; Resistance: 20; Supply 1 Name: Mouser; Supply 1 SN: 667-ERJ-UP3J200V; Supply 2 Name: Digi-Key; Supply 2 SN: 10-ERJ-UP3J200VTR-ND - Tape & Reel (TR); Size: 0603; Mounting Technology: SMT; Rated Power: 1/4 W; Datasheet: https://www.mouser.vn/datasheet/2/315/Panasonic_Resistors_Thick_Film_Anti_Sulf_Anti_Surg-1825099.pdf; ComponentLink1Description: Datasheet link; ComponentLink1URL: *; Supply 1 URL: https://www.mouser.vn/ProductDetail/Panasonic/ERJ-UP3J200V?qs=GedFDFLaBXGLdxLyckTP9w%3D%3D; Supply 2 URL: https://www.digikey.com/en/products/detail/panasonic-electronic-components/ERJ-UP3J200V/12091992?s=N4IgTCBcDaIGxwOwFoCiAlAUsgqgBQGZMwAGEgNRAF0BfIA; Supply 3 Name: *; Supply 3 SN: *; Supply 3 URL: https://www.thegioiic.com/dien-tro-20-ohm-0603-5-
pins: 1, 2

## 0006032035
designator R?, comment 20K, 1/4W
RES, 20K Ohm, size 0603, 5%; Manufacture  Name: Panasonic; Manufacture  SN: ERJ-UP3J203V; Resistance tolerance: +/-5%; Supply 1 Name: Mouser; Supply 1 SN: 667-ERJ-UP3J203V; Supply 2 Name: Digi-Key; Supply 2 SN: 10-ERJ-UP3J203VTR-ND - Tape & Reel (TR); Size: 0603; Mounting Technology: SMT; Rated Power: 1/4 W; Datasheet: https://www.mouser.vn/datasheet/2/315/Panasonic_Resistors_Thick_Film_Anti_Sulf_Anti_Surg-1825099.pdf; Resistance: 20K; ComponentLink1Description: Datasheet link; ComponentLink1URL: *; Supply 1 URL: https://www.mouser.vn/datasheet/2/315/Panasonic_Resistors_Thick_Film_Anti_Sulf_Anti_Surg-1825099.pdf; Supply 2 URL: https://www.digikey.com/en/products/detail/panasonic-electronic-components/ERJ-UP3J203V/12092736?s=N4IgTCBcDaIGxwOwFoCiAlAUsgqgBQGZMwAGAgNRAF0BfIA; Supply 3 Name: *; Supply 3 SN: *; Supply 3 URL: https://www.thegioiic.com/dien-tro-20-kohm-0603-5
pins: 1, 2

## 0006032105
designator R?, comment 21, 1/4W
RES, 21 Ohm, size 0603, 5%; Resistance tolerance: +/-5%; Resistance: 21; Size: 0603; Mounting Technology: SMT; Rated Power: 1/4 W; Datasheet: *; ComponentLink1Description: Datasheet link; ComponentLink1URL: *; Supply 1 Name: *; Supply 1 SN: *; Supply 1 URL: *; Supply 2 Name: *; Supply 2 SN: *; Supply 2 URL: *; Supply 3 Name: *; Supply 3 SN: *; Supply 3 URL: *; Manufacture  Name: *; Manufacture  SN: *
pins: 1, 2

## 0006032135
designator R?, comment 21K, 1/4W
RES, 21K Ohm, size 0603, 5%; Resistance tolerance: +/-5%; Size: 0603; Mounting Technology: SMT; Rated Power: 1/4 W; Datasheet: *; Resistance: 21K; ComponentLink1Description: Datasheet link; ComponentLink1URL: *; Supply 1 Name: *; Supply 1 SN: *; Supply 1 URL: *; Supply 2 Name: *; Supply 2 SN: *; Supply 2 URL: *; Supply 3 Name: *; Supply 3 SN: *; Supply 3 URL: *; Manufacture  Name: *; Manufacture  SN: *
pins: 1, 2

## 0006032155
designator R?, comment 2.1M, 1/4W
RES, 2.1M Ohm, size 0603, 5%; Resistance tolerance: +/-5%; Size: 0603; Mounting Technology: SMT; Rated Power: 1/4 W; Datasheet: *; Resistance: 2.1M; ComponentLink1Description: Datasheet link; ComponentLink1URL: *; Supply 1 Name: *; Supply 1 SN: *; Supply 1 URL: *; Supply 2 Name: *; Supply 2 SN: *; Supply 2 URL: *; Supply 3 Name: *; Supply 3 SN: *; Supply 3 URL: *; Manufacture  Name: *; Manufacture  SN: *
pins: 1, 2

## 0006032215
designator R?, comment 220, 1/4W
RES, 220 Ohm, size 0603, 5%; Manufacture  Name: Panasonic; Manufacture  SN: ERJ-UP3J221V; Resistance tolerance: +/-5%; Resistance: 220; Supply 1 Name: Mouser; Supply 1 SN: 667-ERJ-UP3J221V; Supply 2 Name: Digi-Key; Supply 2 SN: 10-ERJ-UP3J221VTR-ND - Tape & Reel (TR); Size: 0603; Mounting Technology: SMT; Rated Power: 1/4 W; Datasheet: https://www.mouser.vn/datasheet/2/315/Panasonic_Resistors_Thick_Film_Anti_Sulf_Anti_Surg-1825099.pdf; ComponentLink1Description: Datasheet link; ComponentLink1URL: *; Supply 1 URL: https://www.mouser.vn/ProductDetail/Panasonic/ERJ-UP3J221V?qs=GedFDFLaBXFBy%2FTkMi3Z8w%3D%3D; Supply 2 URL: https://www.digikey.com/en/products/detail/panasonic-electronic-components/ERJ-UP3J221V/12092892?s=N4IgTCBcDaIGxwOwFoCiAlAUsgqgBQGZMwwBGANRAF0BfIA; Supply 3 Name: *; Supply 3 SN: *; Supply 3 URL: https://www.thegioiic.com/dien-tro-220-ohm-0603-5
pins: 1, 2

## 0006032235
designator R?, comment 10, 1/4W
RES, 22K Ohm, size 0603, 5%; Manufacture  Name: Panasonic; Manufacture  SN: ERJ-UP3J223V; Resistance tolerance: +/-5%; Supply 1 Name: Mouser; Supply 1 SN: 667-ERJ-UP3J223V; Supply 2 Name: Digi-Key; Supply 2 SN: 10-ERJ-UP3J223VTR-ND - Tape & Reel (TR); Size: 0603; Mounting Technology: SMT; Rated Power: 1/4 W; Datasheet: https://www.mouser.vn/datasheet/2/315/Panasonic_Resistors_Thick_Film_Anti_Sulf_Anti_Surg-1825099.pdf; Resistance: 22K; ComponentLink1Description: Datasheet link; ComponentLink1URL: *; Supply 1 URL: https://www.mouser.vn/ProductDetail/Panasonic/ERJ-UP3J223V?qs=GedFDFLaBXHkpI8RZhFc4A%3D%3D; Supply 2 URL: https://www.digikey.com/en/products/detail/panasonic-electronic-components/ERJ-UP3J223V/12139300?s=N4IgTCBcDaIGxwOwFoCiAlAUsgqgBQGZMwwCA1EAXQF8g; Supply 3 Name: *; Supply 3 SN: *; Supply 3 URL: https://www.thegioiic.com/dien-tro-22-kohm-0603-5
pins: 1, 2

## 0006032265
designator R?, comment 22M, 1/4W
RES, 22M Ohm, size 0603, 5%; Resistance tolerance: +/-5%; Size: 0603; Mounting Technology: SMT; Rated Power: 1/4 W; Datasheet: *; Resistance: 22M; ComponentLink1Description: Datasheet link; ComponentLink1URL: *; Supply 1 Name: *; Supply 1 SN: *; Supply 1 URL: *; Supply 2 Name: *; Supply 2 SN: *; Supply 2 URL: *; Supply 3 Name: *; Supply 3 SN: *; Supply 3 URL: *; Manufacture  Name: *; Manufacture  SN: *
pins: 1, 2

## 0006032325
designator R?, comment 2.3K, 1/4W
RES, 2.3K Ohm, size 0603, 5%; Resistance tolerance: +/-5%; Size: 0603; Mounting Technology: SMT; Rated Power: 1/4 W; Datasheet: *; Resistance: 2.3K; ComponentLink1Description: Datasheet link; ComponentLink1URL: *; Supply 1 Name: *; Supply 1 SN: *; Supply 1 URL: *; Supply 2 Name: *; Supply 2 SN: *; Supply 2 URL: *; Supply 3 Name: *; Supply 3 SN: *; Supply 3 URL: *; Manufacture  Name: *; Manufacture  SN: *
pins: 1, 2

## 0006032345
designator R?, comment 230K, 1/4W
RES, 230K Ohm, size 0603, 5%; Resistance tolerance: +/-5%; Size: 0603; Mounting Technology: SMT; Rated Power: 1/4 W; Datasheet: *; Resistance: 230K; ComponentLink1Description: Datasheet link; ComponentLink1URL: *; Supply 1 Name: *; Supply 1 SN: *; Supply 1 URL: *; Supply 2 Name: *; Supply 2 SN: *; Supply 2 URL: *; Supply 3 Name: *; Supply 3 SN: *; Supply 3 URL: *; Manufacture  Name: *; Manufacture  SN: *
pins: 1, 2

## 0006032405
designator R?, comment 24, 1/4W
RES, 24 Ohm, size 0603, 5%; Manufacture  Name: Panasonic; Manufacture  SN: ERJ-PA3J240V; Resistance tolerance: +/-5%; Resistance: 24; Supply 1 Name: Mouser; Supply 1 SN: 667-ERJ-PA3J240V; Supply 2 Name: Digi-Key; Supply 2 SN: P24.00BZTR-ND - Tape & Reel (TR); Size: 0603; Mounting Technology: SMT; Rated Power: 1/4 W; Datasheet: https://www.mouser.vn/datasheet/2/315/AOA0000C331-1141874.pdf; ComponentLink1Description: Datasheet link; ComponentLink1URL: *; Supply 1 URL: https://www.mouser.vn/ProductDetail/Panasonic/ERJ-PA3J240V?qs=BzJM0faLVqUU%252B6Hm0WsZ0A%3D%3D; Supply 2 URL: https://www.digikey.com/en/products/detail/panasonic-electronic-components/ERJ-PA3J240V/5036021?s=N4IgTCBcDaIGxwOwFoCiAlAUsgCgQQGZMwAWABgDUQBdAXyA; Supply 3 Name: *; Supply 3 SN: *
pins: 1, 2

## 0006032435
designator R?, comment 24K, 1/4W
RES, 24K Ohm, size 0603, 5%; Manufacture  Name: Panasonic; Manufacture  SN: ERJ-PA3J243V; Resistance tolerance: +/-5%; Supply 1 Name: Mouser; Supply 1 SN: 667-ERJ-PA3J243V; Supply 2 Name: Digi-Key; Supply 2 SN: P24KBZTR-ND - Tape & Reel (TR); Size: 0603; Mounting Technology: SMT; Rated Power: 1/4 W; Datasheet: https://www.mouser.vn/datasheet/2/315/AOA0000C331-1141874.pdf; Resistance: 24K; ComponentLink1Description: Datasheet link; ComponentLink1URL: *; Supply 1 URL: https://www.mouser.vn/ProductDetail/Panasonic/ERJ-PA3J243V?qs=BzJM0faLVqVn1fFhvsLUqw%3D%3D; Supply 2 URL: https://www.digikey.com/en/products/detail/panasonic-electronic-components/ERJ-PA3J243V/5036024?s=N4IgTCBcDaIGxwOwFoCiAlAUsgCgQQGZMwAWAgNRAF0BfIA; Supply 3 Name: *; Supply 3 SN: *; Supply 3 URL: https://www.thegioiic.com/dien-tro-24-kohm-0603-5
pins: 1, 2

## 0006032465
designator R?, comment 24M, 1/4W
RES, 24M Ohm, size 0603, 5%; Resistance tolerance: +/-5%; Size: 0603; Mounting Technology: SMT; Rated Power: 1/4 W; Datasheet: *; Resistance: 24M; ComponentLink1Description: Datasheet link; ComponentLink1URL: *; Supply 1 Name: *; Supply 1 SN: *; Supply 1 URL: *; Supply 2 Name: *; Supply 2 SN: *; Supply 2 URL: *; Supply 3 Name: *; Supply 3 SN: *; Supply 3 URL: *; Manufacture  Name: *; Manufacture  SN: *
pins: 1, 2

## 0006032525
designator R?, comment 2.5K, 1/4W
RES, 2.5K Ohm, size 0603, 5%; Resistance tolerance: +/-5%; Size: 0603; Mounting Technology: SMT; Rated Power: 1/4 W; Datasheet: *; Resistance: 2.5K; ComponentLink1Description: Datasheet link; ComponentLink1URL: *; Supply 1 Name: *; Supply 1 SN: *; Supply 1 URL: *; Supply 2 Name: *; Supply 2 SN: *; Supply 2 URL: *; Supply 3 Name: *; Supply 3 SN: *; Supply 3 URL: *; Manufacture  Name: *; Manufacture  SN: *
pins: 1, 2

## 0006032555
designator R?, comment 2.5M, 1/4W
RES, 2.5M Ohm, size 0603, 5%; Resistance tolerance: +/-5%; Size: 0603; Mounting Technology: SMT; Rated Power: 1/4 W; Datasheet: *; Resistance: 2.5M; ComponentLink1Description: Datasheet link; ComponentLink1URL: *; Supply 1 Name: *; Supply 1 SN: *; Supply 1 URL: *; Supply 2 Name: *; Supply 2 SN: *; Supply 2 URL: *; Supply 3 Name: *; Supply 3 SN: *; Supply 3 URL: *; Manufacture  Name: *; Manufacture  SN: *
pins: 1, 2

## 0006032615
designator R?, comment 260, 1/4W
RES, 260 Ohm, size 0603, 5%; Resistance tolerance: +/-5%; Resistance: 260; Size: 0603; Mounting Technology: SMT; Rated Power: 1/4 W; Datasheet: *; ComponentLink1Description: Datasheet link; ComponentLink1URL: *; Supply 1 Name: *; Supply 1 SN: *; Supply 1 URL: *; Supply 2 Name: *; Supply 2 SN: *; Supply 2 URL: *; Supply 3 Name: *; Supply 3 SN: *; Supply 3 URL: *; Manufacture  Name: *; Manufacture  SN: *
pins: 1, 2

## 0006032645
designator R?, comment 260K, 1/4W
RES, 260K Ohm, size 0603, 5%; Resistance tolerance: +/-5%; Size: 0603; Mounting Technology: SMT; Rated Power: 1/4 W; Datasheet: *; Resistance: 260K; ComponentLink1Description: Datasheet link; ComponentLink1URL: *; Supply 1 Name: *; Supply 1 SN: *; Supply 1 URL: *; Supply 2 Name: *; Supply 2 SN: *; Supply 2 URL: *; Supply 3 Name: *; Supply 3 SN: *; Supply 3 URL: *; Manufacture  Name: *; Manufacture  SN: *
pins: 1, 2

## 0006032715
designator R?, comment 270, 1/4W
RES, 270 Ohm, size 0603, 5%; Manufacture  Name: Panasonic; Manufacture  SN: ERJ-UP3J271V; Resistance tolerance: +/-5%; Resistance: 270; Supply 1 Name: Mouser; Supply 1 SN: 667-ERJ-UP3J271V; Supply 2 Name: Digi-Key; Size: 0603; Mounting Technology: SMT; Rated Power: 1/4 W; Datasheet: https://www.mouser.vn/datasheet/2/315/Panasonic_Resistors_Thick_Film_Anti_Sulf_Anti_Surg-1825099.pdf; ComponentLink1Description: Datasheet link; ComponentLink1URL: *; Supply 1 URL: https://www.mouser.vn/ProductDetail/Panasonic/ERJ-UP3J271V?qs=GedFDFLaBXEucStQ6Hh57Q%3D%3D; Supply 2 SN: 667-ERJ-UP3J271V; Supply 2 URL: https://www.digikey.com/en/products/detail/panasonic-electronic-components/ERJ-UP3J271V/12092330?s=N4IgTCBcDaIGxwOwFoCiAlAUsgqgBQGZMxEBGANRAF0BfIA; Supply 3 Name: *; Supply 3 SN: *; Supply 3 URL: https://www.thegioiic.com/dien-tro-270-ohm-0603-5
pins: 1, 2

## 0006032745
designator R?, comment 270K, 1/4W
RES, 270K Ohm, size 0603, 5%; Manufacture  Name: Panasonic; Manufacture  SN: ERJ-PA3J274V; Resistance tolerance: +/-5%; Supply 1 Name: Mouser; Supply 1 SN: 667-ERJ-PA3J274V; Supply 2 Name: Digi-Key; Supply 2 SN: P270KBZTR-ND - Tape & Reel (TR); Size: 0603; Mounting Technology: SMT; Rated Power: 1/4 W; Datasheet: https://www.mouser.vn/datasheet/2/315/AOA0000C331-1141874.pdf; Resistance: 270K; ComponentLink1Description: Datasheet link; ComponentLink1URL: *; Supply 1 URL: https://www.mouser.vn/ProductDetail/Panasonic/ERJ-PA3J274V?qs=BzJM0faLVqVi3SgZ0mtcxw%3D%3D; Supply 2 URL: https://www.digikey.com/en/products/detail/panasonic-electronic-components/ERJ-PA3J274V/5036030?s=N4IgTCBcDaIGxwOwFoCiAlAUsgCgQQGZMxEAWANRAF0BfIA; Supply 3 Name: *; Supply 3 SN: *; Supply 3 URL: *
pins: 1, 2

## 0006032805
designator R?, comment 28, 1/4W
RES, 28 Ohm, size 0603, 5%; Resistance tolerance: +/-5%; Resistance: 28; Size: 0603; Mounting Technology: SMT; Rated Power: 1/4 W; Datasheet: *; ComponentLink1Description: Datasheet link; ComponentLink1URL: *; Supply 1 Name: *; Supply 1 SN: *; Supply 1 URL: *; Supply 2 Name: *; Supply 2 SN: *; Supply 2 URL: *; Supply 3 Name: *; Supply 3 SN: *; Supply 3 URL: *; Manufacture  Name: *; Manufacture  SN: *
pins: 1, 2

## 0006032845
designator R?, comment 280K, 1/4W
RES, 280K Ohm, size 0603, 5%; Resistance tolerance: +/-5%; Size: 0603; Mounting Technology: SMT; Rated Power: 1/4 W; Datasheet: *; Resistance: 280K; ComponentLink1Description: Datasheet link; ComponentLink1URL: *; Supply 1 Name: *; Supply 1 SN: *; Supply 1 URL: *; Supply 2 Name: *; Supply 2 SN: *; Supply 2 URL: *; Supply 3 Name: *; Supply 3 SN: *; Supply 3 URL: *; Manufacture  Name: *; Manufacture  SN: *
pins: 1, 2

## 0006032915
designator R?, comment 290, 1/4W
RES, 290 Ohm, size 0603, 5%; Resistance tolerance: +/-5%; Resistance: 290; Size: 0603; Mounting Technology: SMT; Rated Power: 1/4 W; Datasheet: *; ComponentLink1Description: Datasheet link; ComponentLink1URL: *; Supply 1 Name: *; Supply 1 SN: *; Supply 1 URL: *; Supply 2 Name: *; Supply 2 SN: *; Supply 2 URL: *; Supply 3 Name: *; Supply 3 SN: *; Supply 3 URL: *; Manufacture  Name: *; Manufacture  SN: *
pins: 1, 2

## 0006032945
designator R?, comment 290K, 1/4W
RES, 290K Ohm, size 0603, 5%; Resistance tolerance: +/-5%; Size: 0603; Mounting Technology: SMT; Rated Power: 1/4 W; Datasheet: *; Resistance: 290K; ComponentLink1Description: Datasheet link; ComponentLink1URL: *; Supply 1 Name: *; Supply 1 SN: *; Supply 1 URL: *; Supply 2 Name: *; Supply 2 SN: *; Supply 2 URL: *; Supply 3 Name: *; Supply 3 SN: *; Supply 3 URL: *; Manufacture  Name: *; Manufacture  SN: *
pins: 1, 2

## 0006033015
designator R?, comment 300, 1/4W
RES, 300 Ohm, size 0603, 5%; Manufacture  Name: Panasonic; Manufacture  SN: ERJ-UP3J301V; Resistance tolerance: +/-5%; Resistance: 300; Supply 1 Name: Mouser; Supply 1 SN: 667-ERJ-UP3J301V; Supply 2 Name: Digi-Key; Supply 2 SN: 10-ERJ-UP3J301VTR-ND - Tape & Reel (TR); Size: 0603; Mounting Technology: SMT; Rated Power: 1/4 W; Datasheet: https://www.mouser.vn/datasheet/2/315/Panasonic_Resistors_Thick_Film_Anti_Sulf_Anti_Surg-1825099.pdf; ComponentLink1Description: Datasheet link; ComponentLink1URL: *; Supply 1 URL: https://www.mouser.vn/ProductDetail/Panasonic/ERJ-UP3J301V?qs=GedFDFLaBXHbZaTTwHvSvA%3D%3D; Supply 2 URL: https://www.digikey.com/en/products/detail/panasonic-electronic-components/ERJ-UP3J301V/12093121?s=N4IgTCBcDaIGxwOwFoCiAlAUsgqgBQGZMCAGARgDUQBdAXyA; Supply 3 Name: *; Supply 3 SN: *; Supply 3 URL: *
pins: 1, 2

## 0006033055
designator R?, comment 3M, 1/4W
RES, 3M Ohm, size 0603, 5%; Manufacture  Name: ROHM Semicondutor; Manufacture  SN: ESR03EZPJ305; Resistance tolerance: +/-5%; Supply 1 Name: Mouser; Supply 1 SN: 755-ESR03EZPJ305; Supply 2 Name: Digi-Key; Supply 2 SN: RHM3MDTR-ND - Tape & Reel (TR); Size: 0603; Mounting Technology: SMT; Rated Power: 1/4 W; Datasheet: https://www.mouser.vn/datasheet/2/348/ROHM_S_A0011075102_1-2563252.pdf; Resistance: 3M; ComponentLink1Description: Datasheet link; ComponentLink1URL: *; Supply 1 URL: https://www.mouser.vn/ProductDetail/ROHM-Semiconductor/ESR03EZPJ305?qs=493kPxzlxfLrDGxSq1%2FUyw%3D%3D; Supply 2 URL: https://www.digikey.com/en/products/detail/rohm-semiconductor/ESR03EZPJ305/4051238?s=N4IgTCBcDaIOwFYEFoCiBlASgBgMyoC0AFAKV2wRAF0BfIA; Supply 3 Name: *; Supply 3 SN: *; Supply 3 URL: *
pins: 1, 2

## 0006033125
designator R?, comment 3.1K, 1/4W
RES, 3.1K Ohm, size 0603, 5%; Resistance tolerance: +/-5%; Size: 0603; Mounting Technology: SMT; Rated Power: 1/4 W; Datasheet: *; Resistance: 3.1K; ComponentLink1Description: Datasheet link; ComponentLink1URL: *; Supply 1 Name: *; Supply 1 SN: *; Supply 1 URL: *; Supply 2 Name: *; Supply 2 SN: *; Supply 2 URL: *; Supply 3 Name: *; Supply 3 SN: *; Supply 3 URL: *; Manufacture  Name: *; Manufacture  SN: *
pins: 1, 2

## 0006033165
designator R?, comment 31M, 1/4W
RES, 31M Ohm, size 0603, 5%; Resistance tolerance: +/-5%; Size: 0603; Mounting Technology: SMT; Rated Power: 1/4 W; Datasheet: *; Resistance: 31M; ComponentLink1Description: Datasheet link; ComponentLink1URL: *; Supply 1 Name: *; Supply 1 SN: *; Supply 1 URL: *; Supply 2 Name: *; Supply 2 SN: *; Supply 2 URL: *; Supply 3 Name: *; Supply 3 SN: *; Supply 3 URL: *; Manufacture  Name: *; Manufacture  SN: *
pins: 1, 2

## 0006033205
designator R?, comment 32, 1/4W
RES, 32 Ohm, size 0603, 5%; Resistance tolerance: +/-5%; Resistance: 32; Size: 0603; Mounting Technology: SMT; Rated Power: 1/4 W; Datasheet: *; ComponentLink1Description: Datasheet link; ComponentLink1URL: *; Supply 1 Name: *; Supply 1 SN: *; Supply 1 URL: *; Supply 2 Name: *; Supply 2 SN: *; Supply 2 URL: *; Supply 3 Name: *; Supply 3 SN: *; Supply 3 URL: *; Manufacture  Name: *; Manufacture  SN: *
pins: 1, 2

## 0006033245
designator R?, comment 320K, 1/4W
RES, 320K Ohm, size 0603, 5%; Resistance tolerance: +/-5%; Size: 0603; Mounting Technology: SMT; Rated Power: 1/4 W; Datasheet: *; Resistance: 320K; ComponentLink1Description: Datasheet link; ComponentLink1URL: *; Supply 1 Name: *; Supply 1 SN: *; Supply 1 URL: *; Supply 2 Name: *; Supply 2 SN: *; Supply 2 URL: *; Supply 3 Name: *; Supply 3 SN: *; Supply 3 URL: *; Manufacture  Name: *; Manufacture  SN: *
pins: 1, 2